# Altium schematic symbol library 282857-4.SchLib: 1 symbol
Pins are listed as number, name and electrical type; pins without a type are passive.

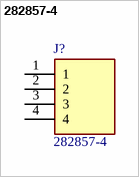
[diagram p0: symbol 282857-4]

## 282857-4
designator J?
Body Features: Product Orientation Vertical | Primary Product Color Green | Configuration Features: Number of Rows 1 | Number of Positions 4 | Wire Entry Angle 90 | Wire Entry Location Side | Contact Features: Contact Current Rating (Max) 24 AMP | Contact Mating Area Plating Material Tin | Contact Base Material Brass | Dimensions: Wire Size 30  12 AWG | Wire Size .05  3 MMSQ | Electrical Characteristics: Operating Voltage 300 VAC | Housing Features: Centerline (Pitch) 5.08 MM | Housing Material PA 6; Manufacturer_Name: TE Connectivity; Geometry.Height: 19mm; Manufacturer_Part_Number: 282857-4; Mouser Part Number: 571-282857-4; Mouser Price/Stock: https://www.mouser.co.uk/ProductDetail/TE-Connectivity/282857-4?qs=tdJWXn2SgN6od76UTwL1iw%3D%3D; Arrow Part Number: 282857-4; Arrow Price/Stock: null?region=nac; Datasheet Link: https://www.te.com/commerce/DocumentDelivery/DDEController?Action=srchrtrv&DocNm=1-1773458-1_EURO_STYLE_QRG&DocType=Data%20Sheet&DocLang=English&PartCntxt=282857-4&DocFormat=pdf
footprint 2828574
pins: 1, 2, 3, 4